# Altium schematic symbol library AIRZAI_LED_SENSE_FLEX_REVA.SCHLIB: 13 symbols
Pins are listed as number, name and electrical type; pins without a type are passive.

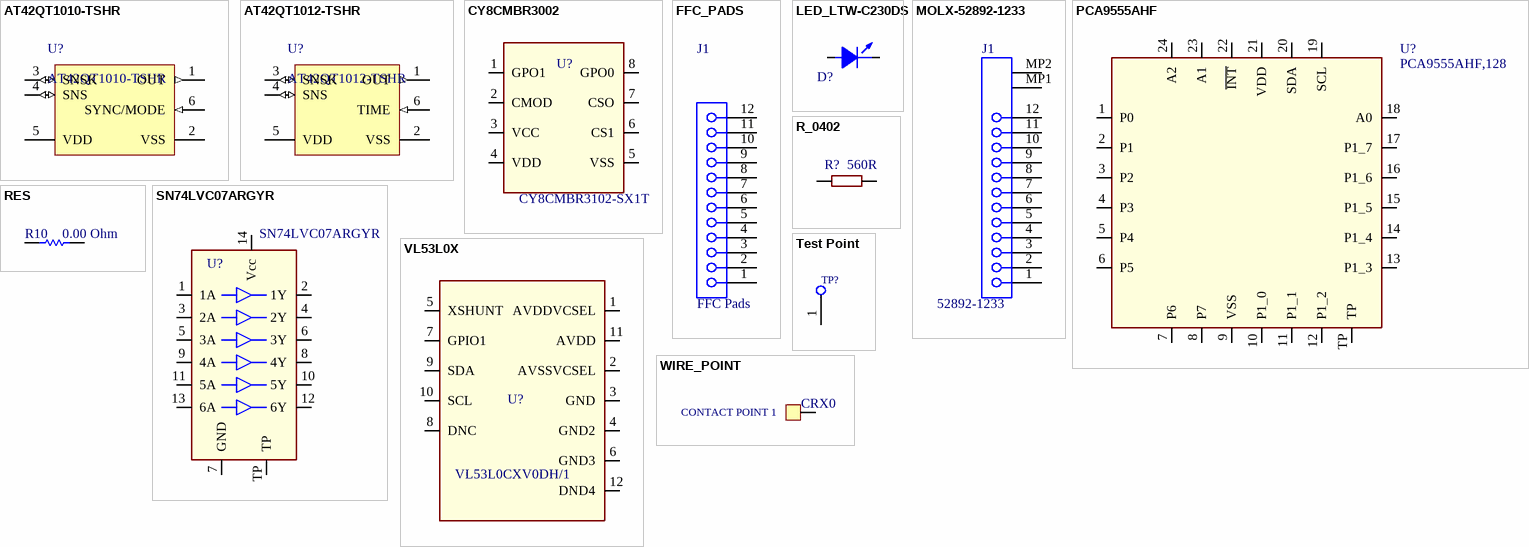
[diagram p0: symbols AT42QT1010-TSHR to WIRE_POINT]

## AT42QT1010-TSHR
designator U?
One-channel Touch Sensor IC with Reset Timer, -40° to +85° C, 6-pin SOT23; ComponentLink1Description: Manufacturer URL; ComponentLink2Description: Datasheet; DatasheetVersion: revH, May-2010; ComponentLink1URL: http://www.atmel.com/; Code_JEDEC: MO-178-AB; Code_IPC: SOT26A-6; PackageVersion: revA, Jun-2008; PackageDescription: 6-Lead, 2.90 x 1.60 mm Plastic Small Outline Package (SOT23); ComponentLink2URL: http://www.atmel.com/Images/doc9541.pdf; PackageReference: 6ST1; PartNumber: AT42QT1010-TSHR
footprint 6ST1_M
footprint 6ST1_N
footprint 6ST1_L
pins: 1 OUT (out), 2 VSS (power), 3 SNSK (io), 4 SNS (io), 5 VDD (power), 6 SYNC/MODE (in)

## AT42QT1012-TSHR
designator U?
One-channel Toggle-mode Touch Sensor IC with Power Management Functions, -40° to +85° C, 6-pin SOT23; ComponentLink1Description: Manufacturer URL; ComponentLink2Description: Datasheet; DatasheetVersion: revD, Aug-2010; ComponentLink1URL: http://www.atmel.com/; Code_JEDEC: MO-178-AB; Code_IPC: SOT26A-6; PackageVersion: revA, Jun-2008; PackageDescription: 6-Lead, 2.90 x 1.60 mm Plastic Small Outline Package (SOT23); ComponentLink2URL: http://www.atmel.com/Images/doc9543.pdf; PackageReference: 6ST1; PartNumber: AT42QT1012-TSHR
footprint SOT-23-6- AT42QT1012-TSHR (SOT23, 6-Leads, Body 2.9x1.6mm, Pitch 0.95mm, Lead Span 2.8mm, IPC Medium Density)
pins: 1 OUT (out), 2 VSS (power), 3 SNSK (io), 4 SNS (io), 5 VDD (power), 6 TIME (in)

## CY8CMBR3002
designator U?, comment CY8CMBR3102-SX1T
Manufacturer: CYPRESS; Manufacturer Part Number: CY8CMBR3102-SX1T; Note: *; Footprint: SOIC8; Value: CY8CMBR3102-SX1T
footprint SOIC8 (SIOC 8PIN 2.0MM HIGH MAX)
pins: 1 GPO1, 2 CMOD, 3 VCC, 4 VDD, 5 VSS, 6 CS1, 7 CSO, 8 GPO0

## FFC_PADS
designator J1, comment FFC Pads
0.5 mm Pitch FFC Pads; ComponentLink2URL: http://www.molex.com/webdocs/datasheets/pdf/en-us/0528921233_FFC_FPC_CONNECTORS.pdf; ComponentLink1URL: http://www.molex.com/molex/index.jsp; ComponentLink3URL: http://www.molex.com/pdm_docs/sd/528921233_sd.pdf; ComponentLink1Description: Manufacturer URL; ComponentLink2Description: Datasheet; ComponentLink3Description: Package Specification
footprint FFC_Pads ((0.50mm)
pins: 1, 2, 3, 4, 5, 6, 7, 8, 9, 10, 11, 12

## LED_LTW-C230DS
designator D?, comment WHITE  (value not drawn)
Manufacturer Part Number: LTW-C230DS; Manufacturer: LITEON; Note: REVERSE MOUNT CHIP LED; Value: WHITE; Footprint: LED_LTW-C230DS
footprint LED_LTW-C230DS (REVERSE MOUNT CHIP LED)
pins: 1 CATHODE, 2 ANODE

## MOLX-52892-1233
designator J1, comment 52892-1233
0.5 mm Pitch Easy-On(TM) Type FPC Connector, 2.0 mm Mated Height, Right Angle, ZIF, SMT, Bottom Contact, 12 Circuits, -40 to 85 degC, ELV and RoHS Compliant, Tape and Reel; Manufacturer: Molex; Circuits (Loaded): 12; Material - Plating Mating: Silver, Tin-Bismuth; Voltage (Max): 50V; Durability (mating cycles max): 20; Polarized to PCB: No; Mated Height: 2.00mm; Current (Max per Contact): 0.5A; PCB Retention: Yes; Pitch - Mating Interface: 0.50mm; Material - Metal: Phosphor Bronze; Entry Angle: 90degrees Angle; ComponentLink2URL: http://www.molex.com/webdocs/datasheets/pdf/en-us/0528921233_FFC_FPC_CONNECTORS.pdf; Number of Rows: 1; Mounting Technology: Surface Mount; ComponentLink1URL: http://www.molex.com/molex/index.jsp; ComponentLink3URL: http://www.molex.com/pdm_docs/sd/528921233_sd.pdf; ComponentLink1Description: Manufacturer URL; ComponentLink2Description: Datasheet; Contact Position: Bottom; PartNumber: 52892-1233; PackageVersion: Rev. A, 05/2013; Orientation: Right Angle; Packing: Tape and Reel; PackageReference: 52892-1233; RoHS: TRUE; Stackable: No; Material - Plating Termination: Silver, Tin-Bismuth; PCB Locator: No; Pitch - Termination Interface: 0.50mm; ComponentLink3Description: Package Specification; PackageDescription: 12-Lead FPC Connector, Pitch 0.5 mm
footprint MOLX-52892-1233 (FPC Connector, 12-Leads, Right Angle, Pitch 0.5 mm, Mated Height 2.0 mm, SMT)
pins: 1, 2, 3, 4, 5, 6, 7, 8, 9, 10, 11, 12, MP1, MP2

## PCA9555AHF
designator U?, comment PCA9555AHF,128
Manufacturer: NXP; Note: 16-BIT GPIO EXPANDER; Manufacturer Part Number: PCA9555AHF,128; Footprint: HWQFN24_4.1X4.1; Value: PCA9555AHF,128
footprint HWQFN24_4.1X4.1
pins: 1 P0, 2 P1, 3 P2, 4 P3, 5 P4, 6 P5, 7 P6, 8 P7, 9 VSS, 10 P1_0, 11 P1_1, 12 P1_2, 13 P1_3, 14 P1_4, 15 P1_5, 16 P1_6, 17 P1_7, 18 A0, 19 SCL, 20 SDA, 21 VDD, 22 ~{INT}, 23 A1, 24 A2, TP

## R_0402
designator R?  value 560R
Manufacturer Part Number: ERJ-2RKF5600X; Manufacturer: Panasonic; Footprint: 0402
footprint SM0402_BTD.1SM_ACT
pins: 1, 2

## RES
designator R10, comment value 0.00 Ohm  (hidden comment: Jumper 0402(1005))
Jumper 0402 (1005 Metric); Tolerance: None; Case-Metric: 1005; Case-EIA: 0402; Power: None; Technology: SMT
footprint RESC0402(1005)_N (Chip Resistor, Body 1.0x0.5mm, IPC Medium Density)
footprint RESC0402(1005)_L (Chip Resistor, Body 1.0x0.5mm, IPC High Density)
footprint RESC0402(1005)_M (Chip Resistor, Body 1.0x0.5mm, IPC Low Density)
pins: 1, 2
1 alternate drawing of the same symbol

## SN74LVC07ARGYR
designator U?
Manufacturer: TI; Footprint: PVQFN14; Manufacturer Part Number: SN74LVC07ARGYR; Value: SN74LVC07ARGYR; Note: *
footprint PVQFN14 (PVQFN 14PIN 3.65X3.65)
pins: 1 1A, 2 1Y, 3 2A, 4 2Y, 5 3A, 6 3Y, 7 GND, 8 4Y, 9 4A, 10 5Y, 11 5A, 12 6Y, 13 6A, 14 Vcc, TP

## Test Point
designator TP?  (value not drawn)
footprint TP_0.9MM (0.9MM DIA TESTPOINT)
pins: 1

## VL53L0X
designator U?, comment VL53L0CXV0DH/1
Manufacturer: ST; Manufacturer Part Number: VL53L0CXV0DH/1; Footprint: VL53L0X; Note: *; Value: VL53L0CXV0DH/1
footprint VL53L0X (SENSOR)
pins: 1 AVDDVCSEL, 2 AVSSVCSEL, 3 GND, 4 GND2, 5 XSHUNT, 6 GND3, 7 GPIO1, 8 DNC, 9 SDA, 10 SCL, 11 AVDD, 12 DND4

## WIRE_POINT
designator CRX0, comment CONTACT POINT 1
footprint CONTACT_POINT_1CM _SQ
pins: 1